# Altium schematic symbol library BRT_baza.SchLib: 317 symbols (part 1 of 4)
Pins are listed as number, name and electrical type; pins without a type are passive.

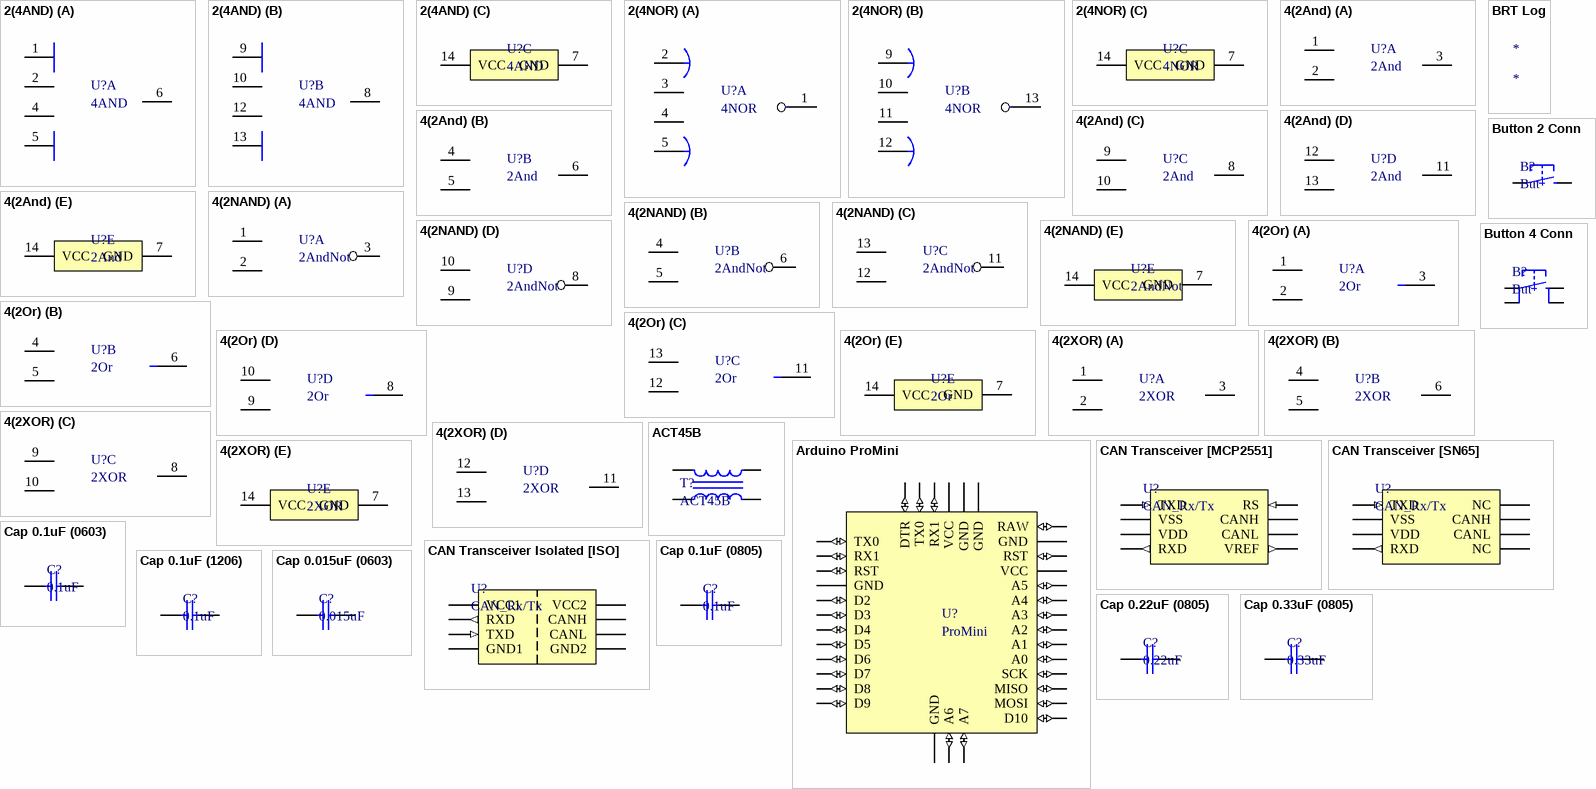
[diagram p0: symbols 2(4AND) to Cap 0.33uF (0805)]

## 2(4AND)
designator U?, comment 4AND
2 logic elements "4AND"; Part Number: 74HC21D,653; Manufacturer: Nexperia; ComponentLink1Description: Chip&Dip; ComponentLink1URL: https://www.chipdip.ru/product/74hc21d.653; Type: IC; ComponentLink2Description: DataSheet; ComponentLink2URL: https://static.chipdip.ru/lib/522/DOC011522559.pdf
footprint SOIC-14
part A pins: 1 A, 2 B, 4 C, 5 D, 6 Y
part B pins: 8 Y, 9 A, 10 B, 12 C, 13 D
part C pins: 7 GND, 14 VCC

## 2(4NOR)
designator U?, comment 4NOR
2 logic elements "4NOR"; Part Number: 74HC4002D,652; Manufacturer: Nexperia; ComponentLink1Description: Chip&Dip; ComponentLink1URL: https://www.chipdip.ru/product/74hc4002d; Type: IC; ComponentLink2Description: DataSheet; ComponentLink2URL: https://static.chipdip.ru/lib/493/DOC011493188.pdf
footprint SOIC-14
part A pins: 1 Y, 2 A, 3 B, 4 C, 5 D
part B pins: 9 A, 10 B, 11 C, 12 D, 13 Y
part C pins: 7 GND, 14 VCC

## 4(2And)
designator U?, comment 2And
4 logic elements "2AND"; Part Number: SN74AC08DR; Manufacturer: Texas Instruments; ComponentLink1Description: DataSheet; ComponentLink1URL: https://static.chipdip.ru/lib/551/DOC001551527.pdf; ComponentLink2Description: Chip&Dip; ComponentLink2URL: https://www.chipdip.ru/product/sn74ac08dr; Type: IC
footprint SOIC-14
part A pins: 1 1A, 2 1B, 3 1Y
part B pins: 4 2A, 5 2B, 6 2Y
part C pins: 8 3Y, 9 3A, 10 3B
part D pins: 11 4Y, 12 4A, 13 4B
part E pins: 7 GND (power), 14 VCC (power)

## 4(2NAND)
designator U?, comment 2AndNot
4 logic elements "2NAND"; Part Number: 74AC00SC; Manufacturer: Fairchild Semiconductor; ComponentLink1Description: DataSheet; ComponentLink1URL: https://static.chipdip.ru/lib/551/DOC001551527.pdf; ComponentLink2Description: ChipDip; ComponentLink2URL: https://www.chipdip.ru/product/74ac00sc; Type: IC
footprint SOIC-14
part A pins: 1 A0, 2 B0, 3 ~{O}0
part B pins: 4 A1, 5 B1, 6 ~{O}1
part C pins: 11 ~{O}2, 12 B2, 13 A2
part D pins: 8 ~{O}3, 9 B3, 10 A3
part E pins: 7 GND (power), 14 VCC (power)

## 4(2Or)
designator U?, comment 2Or
4 logic elements "2OR"; Part Number: 74AC32SC; Manufacturer: Fairchild Semiconductor; ComponentLink1Description: DataSheet; ComponentLink1URL: http://www.farnell.com/datasheets/2287666.pdf; ComponentLink2Description: Chip&Dip; ComponentLink2URL: https://www.chipdip.ru/product/74ac32sc; Type: IC
footprint SOIC-14
part A pins: 1 A0, 2 B0, 3 O0
part B pins: 4 A1, 5 B1, 6 O1
part C pins: 11 O2, 12 B2, 13 A2
part D pins: 8 O3, 9 B3, 10 A3
part E pins: 7 GND, 14 VCC

## 4(2XOR)
designator U?, comment 2XOR
4 logic elements "2XOR"; Part Number: 74HC86D,653; Manufacturer: Nexperia; ComponentLink1Description: Chip&Dip; ComponentLink1URL: https://www.chipdip.ru/product/74hc86d; Type: IC; ComponentLink2Description: DataSheet; ComponentLink2URL: https://ru.mouser.com/datasheet/2/916/74HC_HCT86-1319799.pdf
footprint SOIC-14
part A pins: 1 A, 2 B, 3 Y
part B pins: 4 A, 5 B, 6 Y
part C pins: 8 Y, 9 A, 10 B
part D pins: 11 Y, 12 A, 13 B
part E pins: 7 GND, 14 VCC

## ACT45B
designator T?
Common mode filters / Automotive signal line (for power train/safety); Manufacturer: EMC Components; Part Number: ACT45B-510-2P-TL003; Type: Inductor; ComponentLink1Description: DataSheet; ComponentLink1URL: https://product.tdk.com/info/en/catalog/datasheets/cmf_automotive_signal_act45b_en.pdf
footprint ACT45B
pins: 1, 2, 3, 4

## Arduino ProMini
designator U?, comment ProMini
Pro Mini 16MHz, 5V Arduino; Part Number: promini; Manufacturer: Arduino; Type: Board; ComponentLink2Description: MCUStore; ComponentLink2URL: https://mcustore.ru/store/arduino/arduino-pro-mini-16mgc-5v/?gclid=CjwKCAjwruSHBhAtEiwA_qCpptBiBSHv2K-HxzPqS8Vo7DoRnlbtq3EtxVQpCk8AOObuA6LjwdIEThoCbBYQAvD_BwE
footprint ProMini
pins: 1 RAW (io), 2 GND (power) "Ground", 3 RST (io) "29, Reset, PC6, PCINT14", 4 VCC (power) "Digital power supply", 5 A3 (io) "26, A3, PC3, ADC3, PCINT11", 6 A2 (io) "25, A2, PC2, ADC2, PCINT10", 7 A1 (io) "24, A1, PC1, ADC1, PCINT9", 8 A0 (io) "23, A0, PC0, ADC0, PCINT8", 9 SCK (io) "17, D13, PB5, SCK, PCINT5, LED", 10 MISO (io) "16, D12, PB4, MISO, PCINT4", 11 MOSI (io) "15, D11, PB3, PWM 8-b, MOSI, PCINT3, OC2B", 12 D10 (io) "14, D10, PB2, PWM 8-b, SS, PCINT2, OC1B", 13 A7 (io) "22, A7, ADC7", 14 A6 (io) "19, A6, ADC6", 15 GND (power), 16 D9 (io) "13, D9, PB1, PWM 8-b, PCINT1, OC1A", 17 D8 (io) "12, D8, PB0, PCINT0, ICP, CLKO", 18 D7 (io) "11, D7, PD7, PCINT23, AIN1", 19 D6 (io) "10, D6, PD6, PWM 8-b, PCINT22, AIN0, OC0A", 20 D5 (io) "9, D5, PD5, PWM 8-b, PCINT21, T1, OC0B", 21 D4 (io) "2, D4, PD4, PCINT20, T0, XCK", 22 D3 (io) "1, D3, PD3, PWM 8-b, INT1, PCINT19, OC2B", 23 D2 (io) "32, D2, PD2, INT0, PCINT18", 24 GND (power), 25 RST (io) "29, Reset, PC6, PCINT14", 26 RX1 (io) "30, D0, PD0, RXD, PCINT16", 27 TX0 (io) "31, D1, PD1, TXD, PCINT17", 28 DTR (io), 29 TX0 (io) "31, D1, PD1, TXD, PCINT17", 30 RX1 (io) "30, D0, PD0, RXD, PCINT16", 31 VCC (power) "Digital power supply", 32 GND (power) "Ground", 33 GND (power) "Ground", 34 A5 (io) "28, A5, ADC5, SCL, PCINT13", 35 A4 (io) "27, A4, ADC4, SDA, PCINT12"

## BRT Log
designator *
Team Logo
footprint BRT_Log

## Button 2 Conn
designator B?, comment But
Button 2 Conn SMD; Part Number: L-KLS7-TS3608-5.0-180; Manufacturer: KLS electronic co ltd; Type: Button; ComponentLink1Description: Chip&Dip; ComponentLink1URL: https://www.chipdip.ru/product/kls7-ts3608-5.0-180-td-02xa
footprint BUTTON 6x3.5
pins: 1, 2

## Button 4 Conn
designator B?, comment But
Button 4 Conn SMD; Manufacturer: TE Connectivity; Part Number: 1571563-9; Type: Button; ComponentLink1Description: Chip&Dip; ComponentLink1URL: https://www.chipdip.ru/product/tyco-1571563-9-fsm8jsmatr
footprint Button 6x6
pins: 1, 2, 3, 4

## CAN Transceiver [MCP2551]
designator U?, comment CAN_Rx/Tx
High-speed  CAN,  fault-tolerantdevice  that  serves  as  the  interface  between  a  CANprotocol controller and the physical bus.; Part Number: MCP2551-I/SN; Manufacturer: Microchip; ComponentLink1Description: DataSheet; ComponentLink1URL: https://static.chipdip.ru/lib/204/DOC000204457.pdf; ComponentLink2Description: Chip&Dip; ComponentLink2URL: https://www.chipdip.ru/product/mcp2551-i-sn; Type: IC
footprint SOIC-8
pins: 1 TXD (in), 2 VSS (power), 3 VDD (power), 4 RXD (out), 5 VREF (out), 6 CANL (oc), 7 CANH (oc), 8 RS (in)

## CAN Transceiver [SN65]
designator U?, comment CAN_Rx/Tx
3.3V CAN Transceiver; Part Number: SN65HVD232D; Manufacturer: Texas Instruments; ComponentLink1Description: DataSheet; ComponentLink1URL: https://static.chipdip.ru/lib/204/DOC000204848.pdf; ComponentLink2Description: Chip&Dip; ComponentLink2URL: https://www.chipdip.ru/product/sn65hvd232d-2; Type: IC
footprint SOIC-8
pins: 1 TXD (in), 2 VSS (power), 3 VDD (power), 4 RXD (out), 5 NC, 6 CANL (oc), 7 CANH (oc), 8 NC

## CAN Transceiver Isolated [ISO]
designator U?, comment CAN_Rx/Tx
Galvanically isolated CAN transceiver that meets the specifications of  the ISO11898-2 standard; Part Number: ISO1050DUB; Manufacturer: Texas Instruments; ComponentLink1Description: DataSheet; ComponentLink1URL: https://static.chipdip.ru/lib/143/DOC004143969.pdf; ComponentLink2Description: Chip&Dip; ComponentLink2URL: https://www.chipdip.ru/product/iso1050dub; Type: IC
footprint dub-8
pins: 1 VCC1 (power), 2 RXD (out), 3 TXD (in), 4 GND1 (power), 5 GND2 (power), 6 CANL (oc), 7 CANH (oc), 8 VCC2 (power)

## Cap 0.1uF (0603)
designator C?, comment 0.1uF
0.1uF X7R 16V 10% 0603; Manufacturer: Murata Manufacturing; Part Number: GRM188R71C104KA01D; Type: Capacitor; ComponentLink1Description: Chip&Dip; ComponentLink1URL: https://www.chipdip.ru/product/grm188r71c104ka01d
footprint 0603 Capicator
pins: 1, 2

## Cap 0.1uF (0805)
designator C?, comment 0.1uF
0.1uF X7R 25V 10% 0805; Manufacturer: Murata Manufacturing; Part Number: GRM21BR71E104KA01L; Type: Capacitor; ComponentLink1Description: Chip&Dip; ComponentLink1URL: https://www.chipdip.ru/product/grm21br71e104ka01l
footprint 0805 Capicator
pins: 1, 2

## Cap 0.1uF (1206)
designator C?, comment 0.1uF
0.1uF X7R 100V 10% 1206; Manufacturer: Murata Manufacturing; Part Number: GRM21BR71E104KA01L; Type: Capacitor; ComponentLink1Description: Chip&Dip; ComponentLink1URL: https://www.chipdip.ru/product/grm21br71e104ka01l
footprint 1206 Capacitor
pins: 1, 2

## Cap 0.015uF (0603)
designator C?, comment 0.015uF
0.015uF X7R 50V 10% 0603; Manufacturer: Taiwan; Part Number: MLCC0.015uFX7R50V10%0603; Type: Capacitor; ComponentLink1Description: Chip&Dip; ComponentLink1URL: https://www.chipdip.ru/product0/895412441
footprint 0603 Capicator
pins: 1, 2

## Cap 0.22uF (0805)
designator C?, comment 0.22uF
0.22uF X7R 50V 10% 0805; Manufacturer: Murata Manufacturing; Part Number: GRM21BR71H224KA01L; Type: Capacitor; ComponentLink1Description: Chip&Dip; ComponentLink1URL: https://www.chipdip.ru/product/grm21br71h224k
footprint 0805 Capicator
pins: 1, 2

## Cap 0.33uF (0805)
designator C?, comment 0.33uF
0.33uF X7R 25V 10% 0805; Manufacturer: Murata Manufacturing; Part Number: GRM21BR71E334KA01L; Type: Capacitor; ComponentLink1Description: Chip&Dip; ComponentLink1URL: https://www.chipdip.ru/product/grm21br71e334k
footprint 0805 Capicator
pins: 1, 2

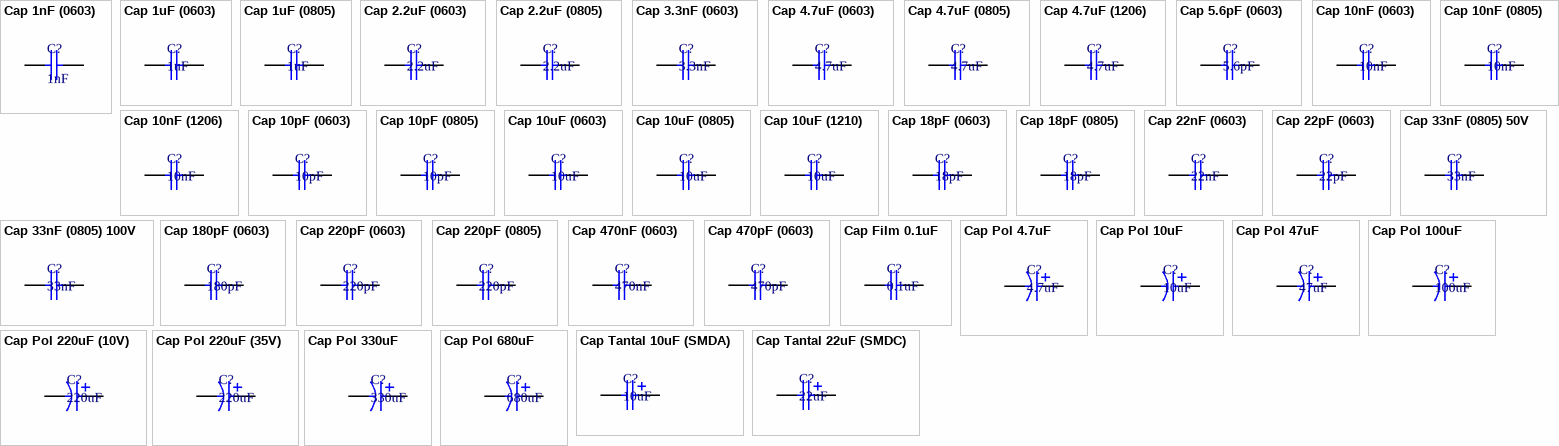
[diagram p1: symbols Cap 1nF (0603) to Cap Tantal 22uF (SMDC)]

## Cap 1nF (0603)
designator C?, comment 1nF
X7R 1nF 100V 10% 0603; Manufacturer: Murata Manufacturing; Part Number: GRM188R72A102KA01D; Type: Capacitor; ComponentLink1Description: Chip&Dip; ComponentLink1URL: https://www.chipdip.ru/product/grm188r72a102ka01d
footprint 0603 Capicator
pins: 1, 2

## Cap 1uF (0603)
designator C?, comment 1uF
1uF X5R 25V 10% 0603; Manufacturer: Murata Manufacturing; Part Number: GRM188R61E105KAADD; Type: Capacitor; ComponentLink1Description: Chip&Dip; ComponentLink1URL: https://www.chipdip.ru/product/grm188r61e105k
footprint 0603 Capicator
pins: 1, 2

## Cap 1uF (0805)
designator C?, comment 1uF
1uF X7R 10% 16V 0805; Manufacturer: Murata Manufacturing; Part Number: GRM21BR71C105KA01K; Type: Capacitor; ComponentLink1Description: Chip&Dip; ComponentLink1URL: https://www.chipdip.ru/product/grm21br71c105k
footprint 0805 Capicator
pins: 1, 2

## Cap 2.2uF (0603)
designator C?, comment 2.2uF
2.2uF X5R 10V 10% 0603; Manufacturer: Murata Manufacturing; Part Number: GRM188R61A225KE34D; Type: Capacitor; ComponentLink1Description: Chip&Dip; ComponentLink1URL: https://www.chipdip.ru/product/grm188r61a225k
footprint 0603 Capicator
pins: 1, 2

## Cap 2.2uF (0805)
designator C?, comment 2.2uF
2.2uF X7R 25V 0805; Manufacturer: Murata Manufacturing; Part Number: GRM21BR71E225KA73L; Type: Capacitor; ComponentLink1Description: Chip&Dip; ComponentLink1URL: https://www.chipdip.ru/product/grm21br71e225k
footprint 0805 Capicator
pins: 1, 2

## Cap 3.3nF (0603)
designator C?, comment 3.3nF
X7R 3.3nF 100V 10% 0603; Manufacturer: Murata Manufacturing; Part Number: GRM188R72A332KA01D; Type: Capacitor; ComponentLink1Description: Chip&Dip; ComponentLink1URL: https://www.chipdip.ru/product/grm188r72a332ka01d
footprint 0603 Capicator
pins: 1, 2

## Cap 4.7uF (0603)
designator C?, comment 4.7uF
4.7uF X5R 25V 10% 0603; Manufacturer: Murata Manufacturing; Part Number: GRM188R61E475KE11D; Type: Capacitor; ComponentLink1Description: Chip&Dip; ComponentLink1URL: https://www.chipdip.ru/product0/9000348448
footprint 0603 Capicator
pins: 1, 2

## Cap 4.7uF (0805)
designator C?, comment 4.7uF
4.7uF X5R 10% 25V 0805; Manufacturer: Murata Manufacturing; Part Number: GRM21BR61E475KA12L; Type: Capacitor; ComponentLink1Description: Chip&Dip; ComponentLink1URL: https://www.chipdip.ru/product/grm21br61e475ka12l
footprint 0805 Capicator
pins: 1, 2

## Cap 4.7uF (1206)
designator C?, comment 4.7uF
4.7uF X7R 10% 50V 1206; Manufacturer: Murata Manufacturing; Part Number: GRM31CR71H475KA12L; Type: Capacitor; ComponentLink1Description: Chip&Dip; ComponentLink1URL: https://www.chipdip.ru/product/grm31cr71h475ka12l
footprint 1206 Capacitor
pins: 1, 2

## Cap 5.6pF (0603)
designator C?, comment 5.6pF
10pF NP0 50V 5% 0603; Manufacturer: Murata Manufacturing; Part Number: GRM1885C1H5R6CZ01D; Type: Capacitor; ComponentLink1Description: Chip&Dip; ComponentLink1URL: https://www.chipdip.ru/product/grm1885c1h5r6c
footprint 0603 Capicator
pins: 1, 2

## Cap 10nF (0603)
designator C?, comment 10nF
X7R 10nF 100V 10% 0603; Manufacturer: Murata Manufacturing; Part Number: GRM188R72A103KA01D; Type: Capacitor; ComponentLink1Description: Chip&Dip; ComponentLink1URL: https://www.chipdip.ru/product/grm188r72a103ka01d
footprint 0603 Capicator
pins: 1, 2

## Cap 10nF (0805)
designator C?, comment 10nF
0805 X7R 10nF 100V 10%; Manufacturer: Murata Manufacturing; Part Number: GRM21BR72A103KA01L; Type: Capacitor; ComponentLink1Description: Chip&Dip; ComponentLink1URL: https://www.chipdip.ru/product/grm21br72a103ka01l
footprint 0805 Capicator
pins: 1, 2

## Cap 10nF (1206)
designator C?, comment 10nF
10nF X7R 10% 50V 1206; Manufacturer: Murata Manufacturing; Part Number: GRM319R71H103KA01D; Type: Capacitor; ComponentLink1Description: Chip&Dip; ComponentLink1URL: https://www.chipdip.ru/product/grm319r71h103k
footprint 1206 Capacitor
pins: 1, 2

## Cap 10pF (0603)
designator C?, comment 10pF
10pF NP0 50V 5% 0603; Manufacturer: Murata Manufacturing; Part Number: GRM1885C1H100JA01D; Type: Capacitor; ComponentLink1Description: Chip&Dip; ComponentLink1URL: https://www.chipdip.ru/product/grm1885c1h100j
footprint 0603 Capicator
pins: 1, 2

## Cap 10pF (0805)
designator C?, comment 10pF
10pF NP0 50V 5% 0805; Manufacturer: Murata Manufacturing; Part Number: GRM2165C1H100JZ01D; Type: Capacitor; ComponentLink1Description: Chip&Dip; ComponentLink1URL: https://www.chipdip.ru/product/grm2165c1h100j
footprint 0805 Capicator
pins: 1, 2

## Cap 10uF (0603)
designator C?, comment 10uF
10uF X5R 25V 20% 0603; Manufacturer: Murata Manufacturing; Part Number: GRM188R61E106M; Type: Capacitor; ComponentLink1Description: Chip&Dip; ComponentLink1URL: https://www.chipdip.ru/product/grm188r61e106m
footprint 0603 Capicator
pins: 1, 2

## Cap 10uF (0805)
designator C?, comment 10uF
10uF X5R 10% 16V 0805; Manufacturer: Murata Manufacturing; Part Number: GRM21BR61C106KE15L; Type: Capacitor; ComponentLink1Description: Chip&Dip; ComponentLink1URL: https://www.chipdip.ru/product/grm21br61c106ke15l
footprint 0805 Capicator
pins: 1, 2

## Cap 10uF (1210)
designator C?, comment 10uF
10uF X7R 10% 50V 1210; Manufacturer: Murata Manufacturing; Part Number: GRM32ER71H106KA12; Type: Capacitor; ComponentLink1Description: Chip&Dip; ComponentLink1URL: https://www.chipdip.ru/product/grm32er71h106k
footprint 1210 CAPACITOR
pins: 1, 2

## Cap 18pF (0603)
designator C?, comment 18pF
18pF NP0 50V 5% 0603; Manufacturer: Murata Manufacturing; Part Number: GRM1885C1H180JA01D; Type: Capacitor; ComponentLink1Description: Chip&Dip; ComponentLink1URL: https://www.chipdip.ru/product/grm1885c1h180j
footprint 0603 Capicator
pins: 1, 2

## Cap 18pF (0805)
designator C?, comment 18pF
18pF NP0 50V 5% 0805; Manufacturer: Murata Manufacturing; Part Number: GRM2165C1H180JD01D; Type: Capacitor; ComponentLink1Description: Chip&Dip; ComponentLink1URL: https://www.chipdip.ru/product/grm2165c1h180j
footprint 0805 Capicator
pins: 1, 2

## Cap 22nF (0603)
designator C?, comment 22nF
22nF X7R 50V 10% 0603; Manufacturer: Murata Manufacturing; Part Number: GRM188R71H223KA01D; Type: Capacitor; ComponentLink1Description: Chip&Dip; ComponentLink1URL: https://www.chipdip.ru/product/grm188r71h223k
footprint 0603 Capicator
pins: 1, 2

## Cap 22pF (0603)
designator C?, comment 22pF
22pF NP0 50V 5% 0603; Manufacturer: Taiwan; Part Number: MLCC22pFNPO50V5%0603; Type: Capacitor; ComponentLink1Description: Chip&Dip; ComponentLink1URL: https://www.chipdip.ru/product0/472852716
footprint 0603 Capicator
pins: 1, 2

## Cap 33nF (0805) 50V
designator C?, comment 33nF
0805 C0G 3.3нФ 50В 5%; Part Number: GRM21BR72A333KA01L; Manufacturer: Murata Manufacturing; Type: Capacitor; ComponentLink1Description: DataSheet; ComponentLink1URL: https://static.chipdip.ru/lib/250/DOC000250694.pdf; ComponentLink2Description: Chip&Dip; ComponentLink2URL: https://www.chipdip.ru/product/grm2165c1h332ja01d
footprint 0805 Capicator
pins: 1, 2

## Cap 33nF (0805) 100V
designator C?, comment 33nF
0805 X7R 33нФ 100В 10%; Part Number: GRM2165C1H332JA01D; Manufacturer: Murata Manufacturing; Type: Capacitor; ComponentLink1Description: DataSheet; ComponentLink1URL: https://static.chipdip.ru/lib/250/DOC000250694.pdf; ComponentLink2Description: Chip&Dip; ComponentLink2URL: https://www.chipdip.ru/product/grm21br72a333ka01l
footprint 0805 Capicator
pins: 1, 2

## Cap 180pF (0603)
designator C?, comment 180pF
180pF NP0 50V 5% 0603; Manufacturer: Murata Manufacturing; Part Number: GRM1885C1H181JA01D; Type: Capacitor; ComponentLink1Description: Chip&Dip; ComponentLink1URL: https://www.chipdip.ru/product/grm1885c1h181j
footprint 0603 Capicator
pins: 1, 2

## Cap 220pF (0603)
designator C?, comment 220pF
220pF NP0 50V 5% 0603; Manufacturer: Murata Manufacturing; Part Number: GRM1885C1H221J; Type: Capacitor; ComponentLink1Description: Chip&Dip; ComponentLink1URL: https://www.chipdip.ru/product/grm1885c1h221j
footprint 0603 Capicator
pins: 1, 2

## Cap 220pF (0805)
designator C?, comment 220pF
220pF NPO 5% 50V 0805; Manufacturer: Murata Manufacturing; Part Number: GRM2165C1H221JA01D; Type: Capacitor; ComponentLink1Description: Chip&Dip; ComponentLink1URL: https://www.chipdip.ru/product/grm2165c1h221j
footprint 0805 Capicator
pins: 1, 2

## Cap 470nF (0603)
designator C?, comment 470nF
470nF X7R 25V 10% 0603; Manufacturer: Murata Manufacturing; Part Number: GRM188R71E474KA12D; Type: Capacitor; ComponentLink1Description: Chip&Dip; ComponentLink1URL: https://www.chipdip.ru/product/grm188r71e474ka12d
footprint 0603 Capicator
pins: 1, 2

## Cap 470pF (0603)
designator C?, comment 470pF
470pF NP0 50V 5% 0603; Manufacturer: Taiwan; Part Number: MLCC470pFNPO50V5%0603; Type: Capacitor; ComponentLink1Description: Chip&Dip; ComponentLink1URL: https://www.chipdip.ru/product0/515359566
footprint 0603 Capicator
pins: 1, 2

## Cap Film 0.1uF
designator C?, comment 0.1uF
0.1uF 1000V 5%; Manufacturer: Epcos; Part Number: B32652A0104J000; Type: Capacitor; ComponentLink1Description: Chip&Dip; ComponentLink1URL: https://www.chipdip.ru/product/b32652a0104j000; ComponentLink2Description: DataSheet; ComponentLink2URL: https://static.chipdip.ru/lib/423/DOC004423752.pdf
footprint CAP Film 9x18 (DS1069-6 MR)
pins: 1, 2

## Cap Pol 4.7uF
designator C?, comment 4.7uF
ECAP SMD,  35V, 105°C; Part Number: B41121A7475M000; Manufacturer: Epcos; Type: Capacitor; ComponentLink1Description: Chip&Dip; ComponentLink1URL: https://www.chipdip.ru/product/b41121a7475m000
footprint Bar Cap 4x5.4
pins: 1, 2

## Cap Pol 10uF
designator C?, comment 10uF
ECAP SMD,  35V; Part Number: ECAPSMD10uF/35V; Manufacturer: China; Type: Capacitor; ComponentLink1Description: Chip&Dip; ComponentLink1URL: https://www.chipdip.ru/product0/884555856
footprint Bar Cap 5x5.4
pins: 1, 2

## Cap Pol 47uF
designator C?, comment 47uF
ECAP SMD,  25V, 105°C, 20%; Part Number: JCK1E470M063054; Manufacturer: JB; Type: Capacitor; ComponentLink1Description: Chip&Dip; ComponentLink1URL: https://www.chipdip.ru/product0/9000565730
footprint Bar Cap 6.3x7.7
pins: 1, 2

## Cap Pol 100uF
designator C?, comment 100uF
ECAP SMD,  35V, 105°C, 20%; Part Number: JCK1V101M063077; Manufacturer: JB; Type: Capacitor; ComponentLink1Description: Chip&Dip; ComponentLink1URL: https://www.chipdip.ru/product0/9000565737
footprint Bar Cap 6.3x7.7
pins: 1, 2

## Cap Pol 220uF (10V)
designator C?, comment 220uF
ECAP SMD,  10V, 105°C, 20%; Part Number: JCK1A221M063077; Manufacturer: JB; Type: Capacitor; ComponentLink1Description: Chip&Dip; ComponentLink1URL: https://www.chipdip.ru/product0/9000565740
footprint Bar Cap 6.3x7.7
pins: 1, 2

## Cap Pol 220uF (35V)
designator C?, comment 220uF
ECAP SMD,  35V, 105°C, 20%; Part Number: JCK1V221M080105; Manufacturer: JB; Type: Capacitor; ComponentLink1Description: Chip&Dip; ComponentLink1URL: https://www.chipdip.ru/product0/9000565743
footprint Bar Cap 8x10.5
pins: 1, 2

## Cap Pol 330uF
designator C?, comment 330uF
ECAP SMD,  16V, 105°C, 20%; Part Number: JCK1C331M080105; Manufacturer: JB; Type: Capacitor; ComponentLink1Description: Chip&Dip; ComponentLink1URL: https://www.chipdip.ru/product0/9000565746
footprint Bar Cap 8x10.5
pins: 1, 2

## Cap Pol 680uF
designator C?, comment 680uF
ECAP, 16V, 105°C, 20%, 8x16mm; Part Number: JRB1C681M03500800160000B; Manufacturer: JB; Type: Capacitor; ComponentLink1Description: Chip&Dip; ComponentLink1URL: https://www.chipdip.ru/product0/9000565740
footprint ECAP 8x16mm
pins: 1, 2

## Cap Tantal 10uF (SMDA)
designator C?, comment 10uF
TECAP, 10uF, 16V, case A, 10%; Part Number: 373033076; Manufacturer: China; Type: Capacitor; ComponentLink1Description: Chip&Dip; ComponentLink1URL: https://www.chipdip.ru/product0/373033076
footprint TANTAL_A_CASE
pins: 1, 2

## Cap Tantal 22uF (SMDC)
designator C?, comment 22uF
TECAP, 22uF, 16V, case C, 10%; Part Number: TECAP22/16VC10; Manufacturer: China; Type: Capacitor; ComponentLink1Description: Chip&Dip; ComponentLink1URL: https://www.chipdip.ru/product0/527359843
footprint TANTAL_C_CASE
pins: 1, 2

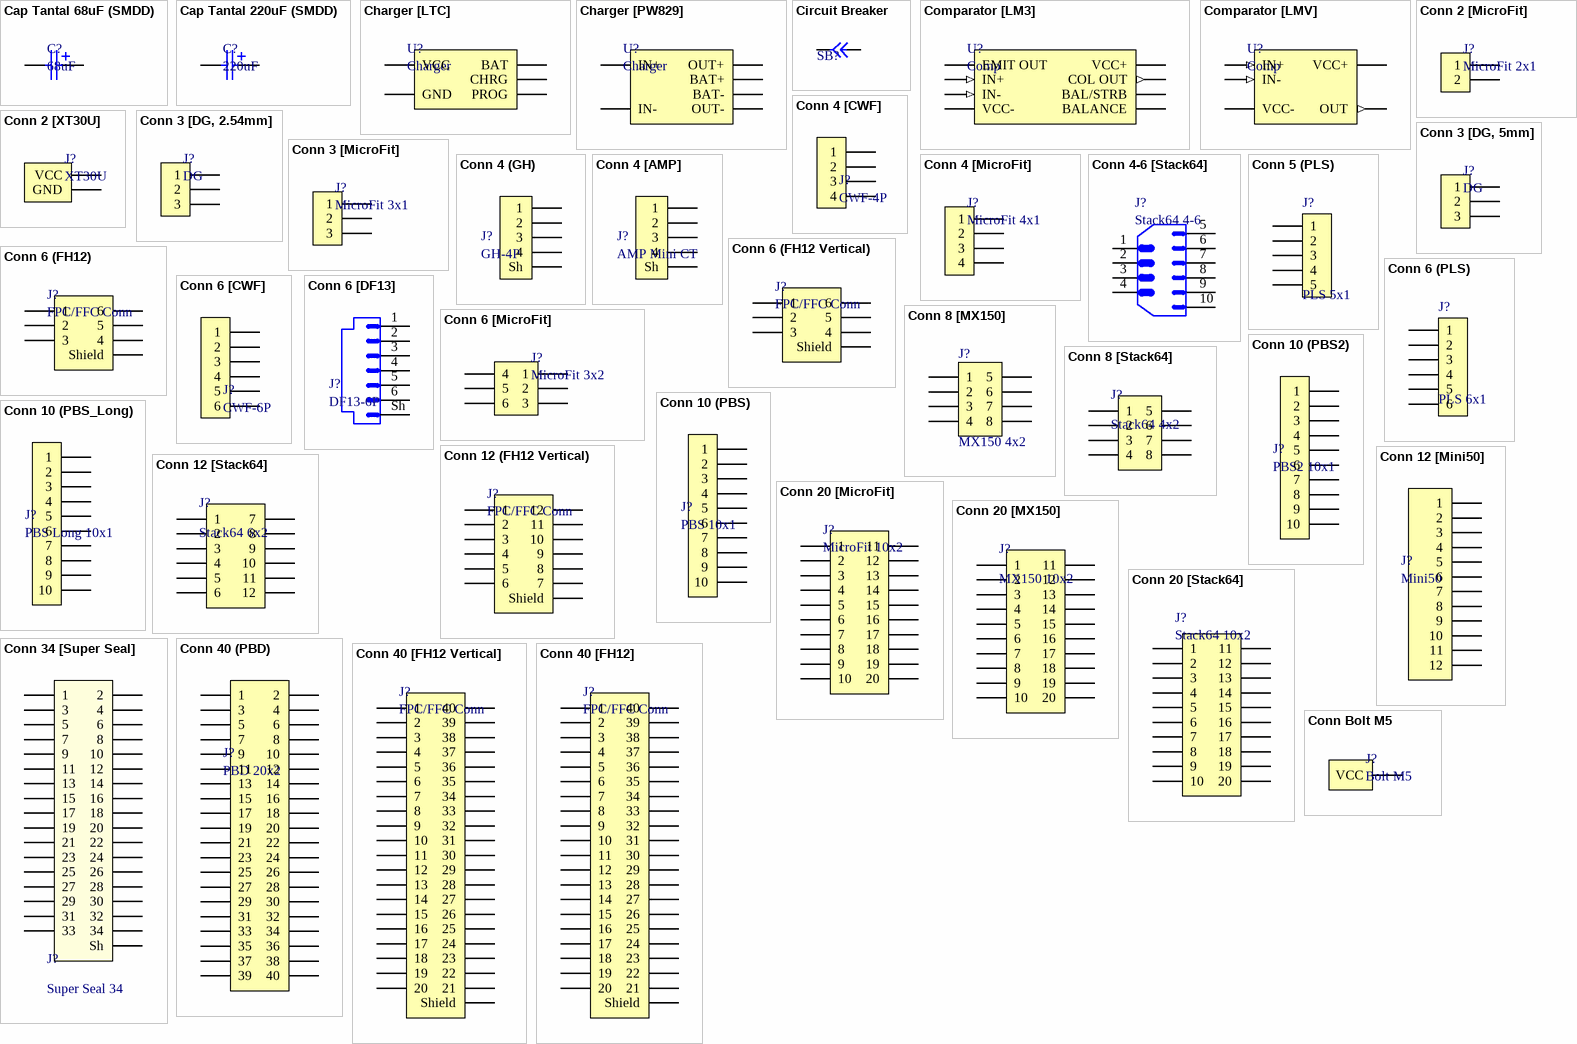
[diagram p2: symbols Cap Tantal 68uF (SMDD) to Conn Bolt M5]

## Cap Tantal 68uF (SMDD)
designator C?, comment 68uF
TECAP, 68uF, 16V, case D, 10%; Part Number: TECAP68/16VD10; Manufacturer: China; Type: Capacitor; ComponentLink1Description: Chip&Dip; ComponentLink1URL: https://www.chipdip.ru/product0/979125339
footprint TANTAL_D_CASE
pins: 1, 2

## Cap Tantal 220uF (SMDD)
designator C?, comment 220uF
TECAP, 220uF, 10V, case D, 10%; Part Number: TECAP220/10VD10; Manufacturer: China; Type: Capacitor; ComponentLink1Description: Chip&Dip; ComponentLink1URL: https://www.chipdip.ru/product0/544389172
footprint TANTAL_D_CASE
pins: 1, 2

## Charger [LTC]
designator U?, comment Charger
The LTC®4054 is a complete constant-current/constant-voltage linear charger for single cell lithium-ion batteries.Its ThinSOT package and low external component countmake the LTC4054 ideally suited for portable applications.Furthermore, the LTC4054 is specifically designed to workwithin USB power specifications; Part Number: LTC4054ES5-4.2#PBF; Manufacturer: Linear Technology; ComponentLink2Description: Chip&Dip; ComponentLink2URL: https://www.chipdip.ru/product/ltc4054es5-4.2; Type: IC; ComponentLink3Description: DataSheet; ComponentLink3URL: https://static.chipdip.ru/lib/760/DOC000760847.pdf
footprint SOT-23-5
pins: 1 CHRG, 2 GND (power), 3 BAT (power), 4 VCC (power), 5 PROG

## Charger [PW829]
designator U?, comment Charger
Charger for Li-Ion; Part Number: PW829; Manufacturer: Master Kit; ComponentLink2Description: Chip&Dip; ComponentLink2URL: https://www.chipdip.ru/product0/8002091037; Type: IC
footprint PW829
pins: B+ BAT+ (power), B- BAT- (power), IN+ (power), IN- (power), OUT+ (power), OUT- (power)

## Circuit Breaker
designator SB?  (value not drawn)
footprint SB 0603 (Jumper)
pins: 1, 2

## Comparator [LM3]
designator U?, comment Comp
Differential comparator with strobes; Part Number: LM311DR; Manufacturer: Texas Instruments; ComponentLink1Description: DataSheet; ComponentLink1URL: https://static.chipdip.ru/lib/222/DOC000222396.pdf; ComponentLink2Description: Chip&Dip; ComponentLink2URL: https://www.chipdip.ru/product/lm311d; Type: IC
footprint SOIC-8
pins: 1 EMIT OUT, 2 IN+ (in), 3 IN- (in), 4 VCC- (power), 5 BALANCE (oc), 6 BAL/STRB (oc), 7 COL OUT (out), 8 VCC+ (power)

## Comparator [LMV]
designator U?, comment Comp
Differential comparator with strobes; Part Number: LMV331M5/NOPB; Manufacturer: Texas Instruments; ComponentLink1Description: DataSheet; ComponentLink1URL: https://static.chipdip.ru/lib/291/DOC000291302.pdf; ComponentLink2Description: Chip&Dip; ComponentLink2URL: https://www.chipdip.ru/product/lmv331m5-nopb; Type: IC
footprint SOT-23-5
pins: 1 IN+ (in), 2 VCC- (power), 3 IN- (in), 4 OUT (out), 5 VCC+ (power)

## Conn 2 [MicroFit]
designator J?, comment MicroFit 2x1
Micro-Fit 3.0 Right-Angle Header, 3.00mm Pitch, Single Row, 2 Circuits, with Snap-in Plastic Peg PCB Lock, Tin, Glow-Wire Capable, Black; Part Number: 436500200; Manufacturer: Molex; ComponentLink1Description: Molex; ComponentLink1URL: https://www.molex.com/molex/products/part-detail/pcb_headers/0436500200; Type: Connector
footprint MolexMicroFit 2x1
pins: 1, 2

## Conn 2 [XT30U]
designator J?, comment XT30U
Standart RC connector; Manufacturer: Amass; ComponentLink1Description: AliExpress; ComponentLink1URL: https://ru.aliexpress.com/item/4000070113352.html?spm=a2g0o.productlist.0.0.39dd34bfyYuspa&algo_pvid=4d7d83f5-6270-4220-b100-9b5f13b0846d&algo_expid=4d7d83f5-6270-4220-b100-9b5f13b0846d-3&btsid=c67bc929-e3be-4af3-9fd9-25ac13ce4818&ws_ab_test=searchweb0_0,searchweb201602_,searchweb201603_55; Part Number: XT30U; Type: Connector
footprint HEADER 2 XT30U
pins: 1 VCC, 2 GND

## Conn 3 [DG, 2.54mm]
designator J?, comment DG
Part Number: DG308-2.54-03P; Manufacturer: Ningbo Xinya M&E; ComponentLink1Description: Chip&Dip; ComponentLink1URL: https://www.chipdip.ru/product/308-031-14-dg308-2.54-03p; Type: Connector
footprint DG308-2.54-03P-3PIN
pins: 1, 2, 3

## Conn 3 [DG, 5mm]
designator J?, comment DG
Part Number: DG128-5.0-03P-14; Manufacturer: KLS electronic co ltd; ComponentLink1Description: Chip&Dip; ComponentLink1URL: https://www.chipdip.ru/product/kls2-128-5.00-03p-4s-dg128-5.0-03p-14; Type: Connector
footprint DG128-5.0-03P-14
pins: 1, 2, 3

## Conn 3 [MicroFit]
designator J?, comment MicroFit 3x1
Micro-Fit 3.0 Right-Angle Header, 3.00mm Pitch, Single Row, 3 Circuits, with Snap-in Plastic Peg PCB Lock, Tin, Glow-Wire Capable, Black; Part Number: 436500300; Manufacturer: Molex; ComponentLink1Description: Molex; ComponentLink1URL: https://www.molex.com/molex/products/part-detail/pcb_headers/0436500300; Type: Connector
footprint MolexMicroFit 3x1
pins: 1, 2, 3

## Conn 4 (GH)
designator J?, comment GH-4P
Connector Receptacle 4 Position 0.049" (1.25mm) Tin Surface Mount, Right Angle; Part Number: SM04B-GHS-TB; Manufacturer: JST Corporation; Type: Connector; ComponentLink1Description: Chip&Dip; ComponentLink1URL: https://www.chipdip.ru/product1/8002655893
footprint JST_GH-4P-RA
pins: 1, 2, 3, 4, A Sh

## Conn 4 [AMP]
designator J?, comment AMP Mini CT
PCB Mount Header, Right Angle,  Wire-to-Board; Part Number: 292227-4; Manufacturer: TE Connectivity; Type: Connector; ComponentLink1Description: TE Connectivity; ComponentLink1URL: https://www.te.com/usa-en/product-292227-4.html; ComponentLink2Description: Mouser; ComponentLink2URL: https://ru.mouser.com/ProductDetail/TE-Connectivity/5-292227-4?qs=sGAEpiMZZMvlX3nhDDO4AKROQBdNP11Lv8TEYXLdyMk%3D
footprint AMP Mini CT
pins: 1, 2, 3, 4, A Sh

## Conn 4 [CWF]
designator J?, comment CWF-4P
Right-Angle; Part Number: DS1069-4MRW6XB; Manufacturer: Ningbo connfly electronic (Zhenqin); Type: Connector; ComponentLink1Description: Chip&Dip; ComponentLink1URL: https://www.chipdip.ru/product/cwf-4r
footprint Conn4x1 (DS1069-6 MR)
pins: 1, 2, 3, 4

## Conn 4 [MicroFit]
designator J?, comment MicroFit 4x1
Micro-Fit 3.0 Right-Angle Header, 3.00mm Pitch, Single Row, 4 Circuits, with Snap-in Plastic Peg PCB Lock, Tin, Glow-Wire Capable, Black; Part Number: 436500400; Manufacturer: Molex; ComponentLink1Description: Molex; ComponentLink1URL: https://www.molex.com/molex/products/part-detail/pcb_headers/0436500400; Type: Connector
footprint MolexMicroFit 4x1
pins: 1, 2, 3, 4

## Conn 4-6 [Stack64]
designator J?, comment Stack64 4-6
Stac64 Single Bay Right-Angle Power Header, 10 Circuits: 4x30A, 6x18A, Polarization A, Black, Tray; Manufacturer: Molex Electronic Solutions; Part Number: 346960100; Type: Connector; ComponentLink1Description: Molex; ComponentLink1URL: https://www.molex.com/molex/products/part-detail/pcb_headers/0346960100
footprint Conn4-6 (Molex)
pins: 1, 2, 3, 4, 5, 6, 7, 8, 9, 10

## Conn 5 (PLS)
designator J?, comment PLS 5x1
Header, 5-Pin
footprint PLS 5x1 (Connector; Header; 5 Position)
pins: 1, 2, 3, 4, 5

## Conn 6 (FH12 Vertical)
designator J?, comment FPC/FFC Conn
Connector to touch sensor's trail; Part Number: FH12-6S-0.5SVA(54); Manufacturer: Hirose Electric; Type: Connector; ComponentLink1Description: Mouser; ComponentLink1URL: https://ru.mouser.com/ProductDetail/Hirose-Connector/FH12-6S-05SVA54?qs=%2Fha2pyFaduhYbZFVunKSgIpYMlkzngMoGcACEbztduQ1P2V6tcZCQQ%3D%3D
footprint FH12-6s Vertical
pins: 1, 2, 3, 4, 5, 6, A Shield

## Conn 6 (FH12)
designator J?, comment FPC/FFC Conn
Connector to touch sensor's trail; Part Number: FH12-6S-0.5SH(55); Manufacturer: Hirose Electric; Type: Connector; ComponentLink1Description: Chip&Dip; ComponentLink1URL: https://www.chipdip.ru/product1/8001997921
footprint FH12-6s
pins: 1, 2, 3, 4, 5, 6, A Shield

## Conn 6 (PLS)
designator J?, comment PLS 6x1
Header, 6-Pin
footprint PLS 6x1 (Connector; Header; 5 Position)
pins: 1, 2, 3, 4, 5, 6

## Conn 6 [CWF]
designator J?, comment CWF-6P
Right-Angle; Manufacturer: Ningbo connfly electronic (Zhenqin); Part Number: DS1069-6MRW6X-B; Type: Connector; ComponentLink1Description: Chip&Dip; ComponentLink1URL: https://www.chipdip.ru/product/cwf-6r
footprint Conn6x1 (DS1069-6 MR)
pins: 1, 2, 3, 4, 5, 6

## Conn 6 [DF13]
designator J?, comment DF13-6P
[DF13-6P-1.25H]; Manufacturer: Hirose; Part Number: CL0536-0255-2-75; Type: Connector; ComponentLink1Description: Hirose; ComponentLink1URL: https://www.hirose.com/product/p/CL0536-0255-2-75?lang=ru
footprint DF13-6p-1.25H; pin to pad Sh>A
pins: 1, 2, 3, 4, 5, 6, Sh A

## Conn 6 [MicroFit]
designator J?, comment MicroFit 3x2
Micro-Fit 3.0 Right-Angle Header, 3.00mm Pitch, Dual Row, 6 Circuits, with Snap-in Plastic Peg PCB Lock, Tin, Glow-Wire Capable, Black; Part Number: 430450600; Manufacturer: Molex; ComponentLink1Description: Molex; ComponentLink1URL: https://www.molex.com/molex/products/part-detail/pcb_headers/0430450600; Type: Connector
footprint MolexMicroFit 3x2
pins: 1, 2, 3, 4, 5, 6

## Conn 8 [MX150]
designator J?, comment MX150 4x2
MX150 2x4 Dual Row Right-Angle Header, 8 Circuits, Keying Option A, Black, Solder Tail; Manufacturer: Molex Electronic Solutions; Part Number: 348300801; ComponentLink1Description: Molex; ComponentLink1URL: https://www.molex.com/molex/products/part-detail/pcb_headers/0348300801; Type: Connector
footprint Conn 4x2 (Molex MX150)
pins: 1, 2, 3, 4, 5, 6, 7, 8

## Conn 8 [Stack64]
designator J?, comment Stack64 4x2
Stac64 Right-Angle Header Assembly, 8 Circuits, Polarization A, Black, Tray; Manufacturer: Molex Electronic Solutions; Part Number: 346910080; Type: Connector; ComponentLink1Description: Molex; ComponentLink1URL: https://www.molex.com/molex/products/part-detail/pcb_headers/0346910080
footprint Conn 4x2 (Molex)
pins: 1, 2, 3, 4, 5, 6, 7, 8

## Conn 10 (PBS2)
designator J?, comment PBS2 10x1
Female; Part Number: DS1026-01-1*10S8BV; Manufacturer: Ningbo connfly electronic; Type: Connector; ComponentLink1Description: Chip&Dip; ComponentLink1URL: https://www.chipdip.ru/product/pbs2-10
footprint PBS2 10
pins: 1, 2, 3, 4, 5, 6, 7, 8, 9, 10

## Conn 10 (PBS)
designator J?, comment PBS 10x1
Female; Part Number: DS1023-1*10S21; Manufacturer: Ningbo connfly electronic; Type: Connector; ComponentLink1Description: Chip&Dip; ComponentLink1URL: https://www.chipdip.ru/product/pbs-10
footprint PBS10
pins: 1, 2, 3, 4, 5, 6, 7, 8, 9, 10

## Conn 10 (PBS_Long)
designator J?, comment PBS Long 10x1
Long Arguino Male & Female Pins; Part Number: DS1023-30-1*10SF11-N-084; Manufacturer: Ningbo connfly electronic; Type: Connector; ComponentLink1Description: Chip&Dip; ComponentLink1URL: https://www.chipdip.ru/product/ds1023-30-1x10-for-arduino
footprint PBS10 Arduino
pins: 1, 2, 3, 4, 5, 6, 7, 8, 9, 10

## Conn 12 (FH12 Vertical)
designator J?, comment FPC/FFC Conn
Connector to trail; Part Number: FH12-12S-0.5SVA(54); Manufacturer: Hirose Electric; Type: Connector; ComponentLink1Description: Mouser; ComponentLink1URL: https://ru.mouser.com/ProductDetail/Hirose-Connector/FH12-12S-05SVA54?qs=%2Fha2pyFadugx2rsdyHDVcXwbI8krQaq6%252BPNTW5YGSdYzC8JBsy5pU75ViyDjvRCP
footprint FH12-12S Vertical
pins: 1, 2, 3, 4, 5, 6, 7, 8, 9, 10, 11, 12, A Shield

## Conn 12 [Mini50]
designator J?, comment Mini50
Mini50 Unsealed Right-Angle Header, Dual Row, 12 Circuit, Polarization Option A,Black, Tray; Part Number: 348260124; Manufacturer: Molex; Type: Connector; ComponentLink1Description: Mouser; ComponentLink1URL: https://ru.mouser.com/ProductDetail/Molex/34826-0124?qs=sGAEpiMZZMs7eK6h2EBtKq%2FAicJUTTGjFIo7mj9gX0g%3D
footprint Conn2x6 (Molex)
pins: 1, 2, 3, 4, 5, 6, 7, 8, 9, 10, 11, 12

## Conn 12 [Stack64]
designator J?, comment Stack64 6x2
Stac64 Right-Angle Header Assembly, 12 Circuits, Polarization A, Black, Tray / Current - Maximum per Contact 10.0A / Voltage - Maximum 500V; ComponentLink1Description: Molex; ComponentLink1URL: https://www.molex.com/molex/products/part-detail/pcb_headers/0346910120; ComponentLink2Description: DataSheet; ComponentLink2URL: https://www.molex.com/webdocs/datasheets/pdf/en-us/0346910120_PCB_HEADERS.pdf
footprint Conn6x2(Molex)
pins: 1, 2, 3, 4, 5, 6, 7, 8, 9, 10, 11, 12

## Conn 20 [MicroFit]
designator J?, comment MicroFit 10x2
Micro-Fit 3.0 Right-Angle Header, 3.00mm Pitch, Dual Row, 20 Circuits, with Snap-in Plastic Peg PCB Lock, Tin, Glow-Wire Capable, Black; Part Number: 436500400; Manufacturer: Molex; ComponentLink1Description: Molex; ComponentLink1URL: https://www.molex.com/molex/products/part-detail/pcb_headers/0436500400; Type: Connector
footprint MolexMicroFit 10x2
pins: 1, 2, 3, 4, 5, 6, 7, 8, 9, 10, 11, 12, 13, 14, 15, 16, 17, 18, 19, 20

## Conn 20 [MX150]
designator J?, comment MX150 10x2
Dual Row Right-Angle Header, 20 Circuits, Keying Option C, Dark Gray, Solder Tail; Part Number: 348302003; Manufacturer: Molex; ComponentLink2Description: Datasheet; ComponentLink2URL: https://www.molex.com/pdm_docs/as/AS-34829-001-001.pdf; Type: Connector
footprint Conn2x10 (Molex)
pins: 1, 2, 3, 4, 5, 6, 7, 8, 9, 10, 11, 12, 13, 14, 15, 16, 17, 18, 19, 20

## Conn 20 [Stack64]
designator J?, comment Stack64 10x2
Stac64 Right-Angle Header Assembly, 20 Circuits x 10A, Polarization A, Black, Tray; Manufacturer: Molex Electronic Solutions; Part Number: 346910200; Type: Connector; ComponentLink1Description: Molex; ComponentLink1URL: https://www.molex.com/molex/products/part-detail/pcb_headers/0346910200
footprint Conn10x2 (Molex)
pins: 1, 2, 3, 4, 5, 6, 7, 8, 9, 10, 11, 12, 13, 14, 15, 16, 17, 18, 19, 20

## Conn 34 [Super Seal]
designator J?, comment Super Seal 34
Manufacturer: TE Connectivity; Part Number: 6437288-1; ComponentLink1Description: TE Connectivity; ComponentLink1URL: https://www.te.com/usa-en/product-6437288-1.html; Type: Connector
footprint SuperSeal 34pin
pins: 1, 2, 3, 4, 5, 6, 7, 8, 9, 10, 11, 12, 13, 14, 15, 16, 17, 18, 19, 20, 21, 22, 23, 24, 25, 26, 27, 28, 29, 30, 31, 32, 33, 34, A Sh

## Conn 40 (PBD)
designator J?, comment PBD 20x2
Female for PLD; Part Number: DS1023-2*20S21; Manufacturer: Ningbo connfly electronic; Type: Connector; ComponentLink1Description: Chip&Dip; ComponentLink1URL: https://www.chipdip.ru/product/pbd-40
footprint PBD 2x20
pins: 1, 2, 3, 4, 5, 6, 7, 8, 9, 10, 11, 12, 13, 14, 15, 16, 17, 18, 19, 20, 21, 22, 23, 24, 25, 26, 27, 28, 29, 30, 31, 32, 33, 34, 35, 36, 37, 38, 39, 40

## Conn 40 [FH12 Vertical]
designator J?, comment FPC/FFC Conn
Connector to Display's trail.; Part Number: FH12-40S-0.5SVA(54); Manufacturer: Hirose Electric; Type: Connector; ComponentLink1Description: Chip&Dip; ComponentLink1URL: https://www.chipdip.ru/product1/8002082143
footprint FH12-40S Vertical
pins: 1, 2, 3, 4, 5, 6, 7, 8, 9, 10, 11, 12, 13, 14, 15, 16, 17, 18, 19, 20, 21, 22, 23, 24, 25, 26, 27, 28, 29, 30, 31, 32, 33, 34, 35, 36, 37, 38, 39, 40, A Shield

## Conn 40 [FH12]
designator J?, comment FPC/FFC Conn
Connector to Display's trail; Part Number: FH12-40S-0.5SH[55]; Manufacturer: Hirose Electric; Type: Connector; ComponentLink1Description: Chip&Dip; ComponentLink1URL: https://www.chipdip.ru/product1/8001997919
footprint FH12-40S
pins: 1, 2, 3, 4, 5, 6, 7, 8, 9, 10, 11, 12, 13, 14, 15, 16, 17, 18, 19, 20, 21, 22, 23, 24, 25, 26, 27, 28, 29, 30, 31, 32, 33, 34, 35, 36, 37, 38, 39, 40, A Shield

## Conn Bolt M5
designator J?, comment Bolt M5
Bolt M5 high corrent connector; Type: Connetctor; Manufacturer: *; Part Number: *; ComponentLink1Description: Chip&Dip; ComponentLink1URL: *; ComponentLink2Description: Datasheet; ComponentLink2URL: *
footprint Bolt M5
pins: 1 VCC

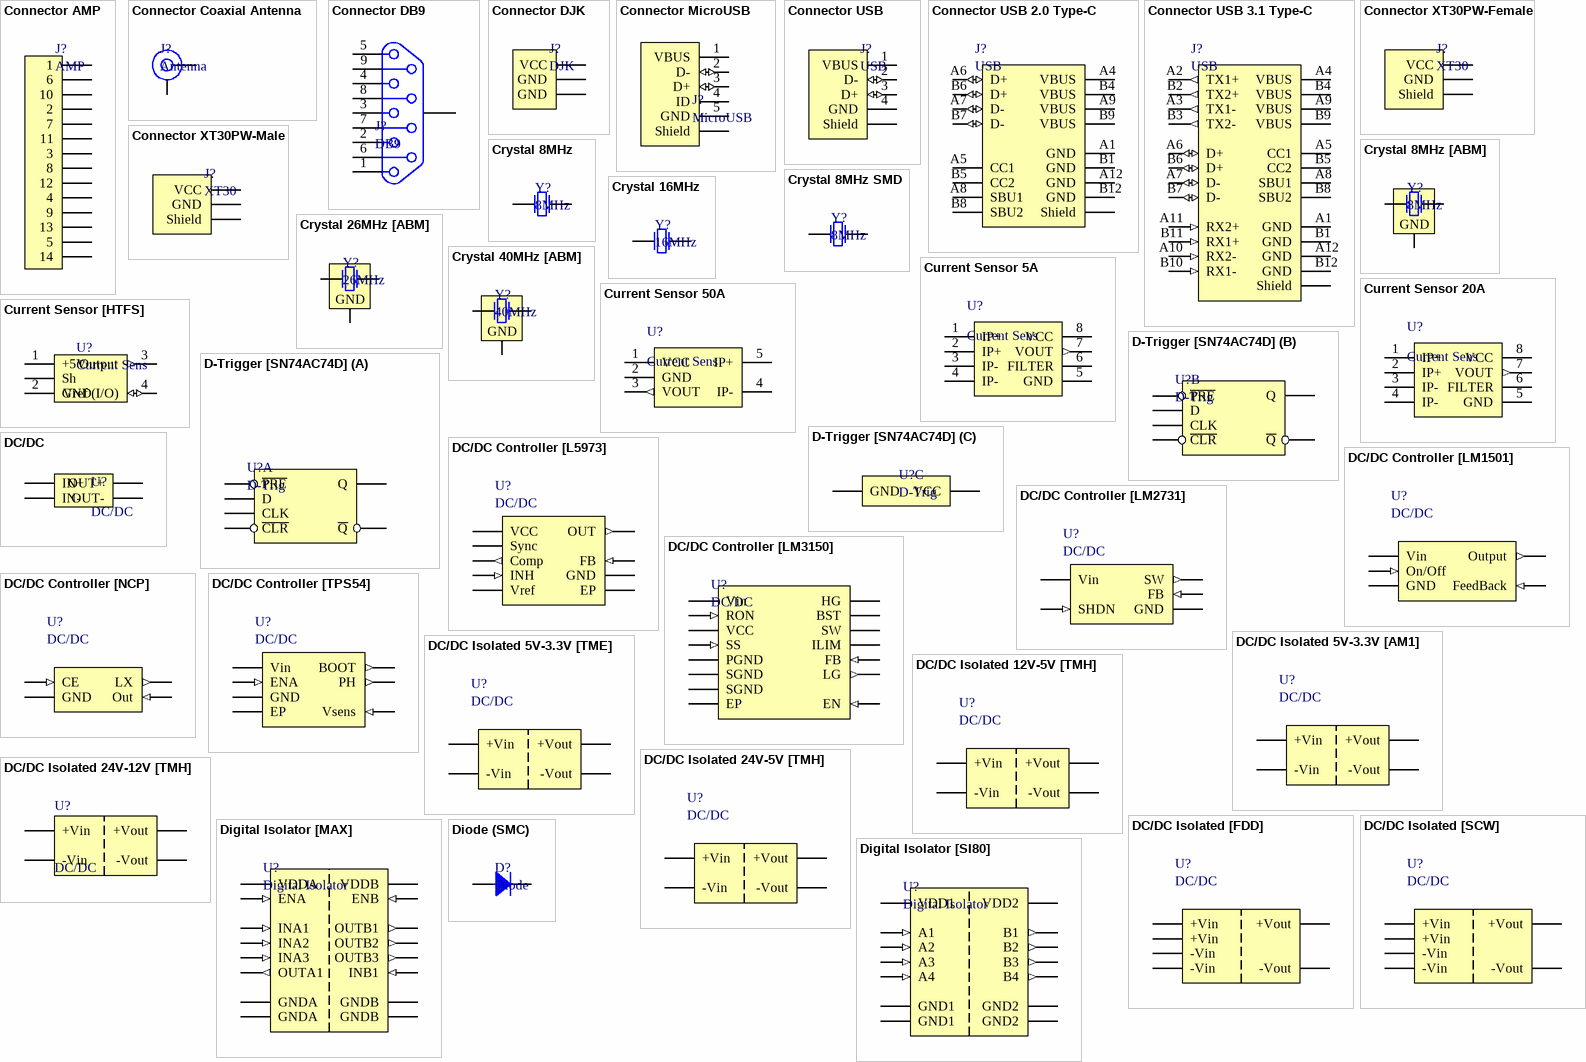
[diagram p3: symbols Connector AMP to Diode (SMC)]

## Connector AMP
designator J?, comment AMP
AMP Connector; Part Number: 776266-1; Manufacturer: TE Connectivity; Type: Connector
footprint AMP 776266-1
pins: 1, 2, 3, 4, 5, 6, 7, 8, 9, 10, 11, 12, 13, 14

## Connector Coaxial Antenna
designator J?, comment Antenna
[IPX U. FL]; Manufacturer: DIY BOX; ComponentLink1Description: AliExpress; ComponentLink1URL: https://aliexpress.ru/i/32666421757.html; Type: Connector; Part Number: IPX U. FL
footprint IPX U. FL
pins: 1 Antenna, A GND

## Connector DB9
designator J?, comment DB9
CONN D-SUB PLUG 9POS R/A SOLDER; Part Number: DR09S-H-CN; Manufacturer: Auk Contractors; ComponentLink1Description: DataSheet; ComponentLink1URL: https://static.chipdip.ru/lib/009/DOC004009535.pdf; ComponentLink2Description: Chip&Dip; ComponentLink2URL: https://www.chipdip.ru/product/dr09s-h-cn-drb-9fa-dbr-9f; Type: Connector
footprint DB9
pins: 1, 2, 3, 4, 5, 6, 7, 8, 9, A

## Connector DJK
designator J?, comment DJK
DC 2.5x5.5mm; Part Number: DS-210A (PBT) (NB); Manufacturer: Dragon City Industries; ComponentLink1Description: Chip&Dip; ComponentLink1URL: https://www.chipdip.ru/product/ds-210a-djk-02b; Type: Connector
footprint DJK-02B
pins: 1 VCC (power), 2 GND, 3 GND

## Connector MicroUSB
designator J?, comment MicroUSB
Molex MicroUSB; Part Number: 473460001; Manufacturer: Molex; ComponentLink1Description: Chip&Dip; ComponentLink1URL: https://www.chipdip.ru/product/molex-47346-0001; Type: Connector
footprint MicroUSB 47346-0001
pins: 1 VBUS (power), 2 D- (io), 3 D+ (io), 4 ID, 5 GND (power), A Shield (power)

## Connector USB
designator J?, comment USB
[DS1098-BN0]; Manufacturer: Ningbo connfly electronic; Part Number: DS1098-BN0; ComponentLink1Description: Chip&Dip; ComponentLink1URL: https://www.chipdip.ru/product/usb-asm-ds1098-b; ComponentLink2Description: DataSheet; ComponentLink2URL: https://static.chipdip.ru/lib/249/DOC000249309.pdf; Type: Connector
footprint USB
pins: 1 VBUS (power), 2 D- (io), 3 D+ (io), 4 GND (power), A Shield (power)

## Connector USB 2.0 Type-C
designator J?, comment USB
[USB4085-GF-A]; Manufacturer: Global Connector Technology; Part Number: USB4085-GF-A; ComponentLink1Description: Chip&Dip; ComponentLink1URL: https://www.chipdip.ru/product/usb4085-gf-a; Type: Connector; ComponentLink2Description: DataSheet; ComponentLink2URL: https://www.farnell.com/cad/2648880.pdf
footprint USB Type-C
pins: A Shield (power), A1 GND (power), A4 VBUS (power), A5 CC1, A6 D+ (io), A7 D- (io), A8 SBU1, A9 VBUS (power), A12 GND (power), B1 GND (power), B4 VBUS (power), B5 CC2, B6 D+ (io), B7 D- (io), B8 SBU2, B9 VBUS (power), B12 GND (power)

## Connector USB 3.1 Type-C
designator J?, comment USB
[E8124-010-01]; Manufacturer: Pulse Engineering; Part Number: E8124-010-01; ComponentLink1Description: Chip&Dip; ComponentLink1URL: https://www.chipdip.ru/product1/8002225623; Type: Connector
pins: 5 Shield (power), A1 GND (power), A2 TX1+ (out), A3 TX1- (out), A4 VBUS (power), A5 CC1, A6 D+ (io), A7 D- (io), A8 SBU1, A9 VBUS (power), A10 RX2- (in), A11 RX2+ (in), A12 GND (power), B1 GND (power), B2 TX2+ (out), B3 TX2- (out), B4 VBUS (power), B5 CC2, B6 D+ (io), B7 D- (io), B8 SBU2, B9 VBUS (power), B10 RX1- (in), B11 RX1+ (in), B12 GND (power)

## Connector XT30PW-Female
designator J?, comment XT30
Standart RC Connector; Part Number: XT30PW; Manufacturer: Amass; ComponentLink1Description: AliExpress; ComponentLink1URL: https://ru.aliexpress.com/item/4000070113352.html?spm=a2g0o.productlist.0.0.39dd34bfyYuspa&algo_pvid=4d7d83f5-6270-4220-b100-9b5f13b0846d&algo_expid=4d7d83f5-6270-4220-b100-9b5f13b0846d-3&btsid=c67bc929-e3be-4af3-9fd9-25ac13ce4818&ws_ab_test=searchweb0_0,searchweb201602_,searchweb201603_55; Type: Connector
footprint HEADER 2 XT30PW FeMale
pins: 1 GND, 2 VCC, A Shield

## Connector XT30PW-Male
designator J?, comment XT30
Standart RC Connector; Part Number: XT30PW; Manufacturer: Amass; ComponentLink1Description: AliExpress; ComponentLink1URL: https://ru.aliexpress.com/item/4000070113352.html?spm=a2g0o.productlist.0.0.39dd34bfyYuspa&algo_pvid=4d7d83f5-6270-4220-b100-9b5f13b0846d&algo_expid=4d7d83f5-6270-4220-b100-9b5f13b0846d-3&btsid=c67bc929-e3be-4af3-9fd9-25ac13ce4818&ws_ab_test=searchweb0_0,searchweb201602_,searchweb201603_55; Type: Connector
footprint HEADER 2 XT30PW Male
pins: 1 VCC, 2 GND, A Shield

## Crystal 8MHz
designator Y?, comment 8MHz
Crystal. HC-49S (US); Manufacturer: China; Part Number: 8.000MHzHC-49US; Type: Crystal; ComponentLink1Description: Chip&Dip; ComponentLink1URL: https://www.chipdip.ru/product/8mhz-hc-49s
footprint R38 (Crystal)
pins: 1, 2

## Crystal 8MHz [ABM]
designator Y?, comment 8MHz
8.0MHz 10pf 10ppm -10C +60C; Manufacturer: ABRACON; Part Number: ABM3B-8.000MHZ-10-1UT; Type: Crystal; ComponentLink1Description: Mouser; ComponentLink1URL: https://ru.mouser.com/ProductDetail/ABRACON/ABM3B-8000MHZ-10-1UT?qs=sGAEpiMZZMsBj6bBr9Q9aQYUWCbsL2Wc65je5Ut7byg%3D; ComponentLink2Description: DataSheet; ComponentLink2URL: https://ru.mouser.com/datasheet/2/3/abm3b-39910.pdf
footprint Crystal ABM
pins: 1, 2, GND

## Crystal 8MHz SMD
designator Y?, comment 8MHz
Crystal. HC-49SM (US); Manufacturer: China; Part Number: 8.000MHzHC-49SM; Type: Crystal; ComponentLink1Description: Chip&Dip; ComponentLink1URL: https://www.chipdip.ru/product/8mhz-hc-49sm
footprint hc-49sm
pins: 1, 2

## Crystal 16MHz
designator Y?, comment 16MHz
Crystal. HC-49S (US); Manufacturer: China; Part Number: 16.000MHzHC-49US; Type: Crystal; ComponentLink1Description: Chip&Dip; ComponentLink1URL: https://www.chipdip.ru/product/16mhz-hc-49s
footprint R38 (Crystal)
pins: 1, 2

## Crystal 26MHz [ABM]
designator Y?, comment 26MHz
26.0MHz 10pf 10ppm -10C +60C; Manufacturer: ABRACON; Part Number: ABM3B-26.000MHZ-10-1-U-T; Type: Crystal; ComponentLink1Description: Mouser; ComponentLink1URL: https://ru.mouser.com/ProductDetail/ABRACON/ABM3B-26000MHZ-10-1-U-T?qs=sGAEpiMZZMsBj6bBr9Q9aYIb7x83P10s%2FVqDaCBbZQI%3D; ComponentLink2Description: DataSheet; ComponentLink2URL: https://ru.mouser.com/datasheet/2/3/abm3b-1774998.pdf
footprint Crystal ABM
pins: 1, 2, GND

## Crystal 40MHz [ABM]
designator Y?, comment 40MHz
40.0MHz 10pf 10ppm -10C +60C; Manufacturer: ABRACON; Part Number: ABM3B-40.000MHZ-10-1-U-T; Type: Crystal; ComponentLink1Description: Mouser; ComponentLink1URL: https://ru.mouser.com/ProductDetail/ABRACON/ABM3B-40000MHZ-10-1-U-T?qs=sGAEpiMZZMsBj6bBr9Q9acVJ3l36SOAPS6GFViLdkvE%3D; ComponentLink2Description: DataSheet; ComponentLink2URL: https://ru.mouser.com/datasheet/2/3/abm3b-1774998.pdf
footprint Crystal ABM
pins: 1, 2, GND

## Current Sensor 5A
designator U?, comment Current Sens
Hall current sensor, 5A, VIN upto 8V; Manufacturer: Allegro MicroSystems; Part Number: ACS712ELCTR-05B-T; Type: IC; ComponentLink1Description: ChipDip; ComponentLink1URL: https://www.chipdip.ru/product/acs712elctr-05b-t; ComponentLink2Description: Datasheet; ComponentLink2URL: https://static.chipdip.ru/lib/242/DOC000242949.pdf
footprint SOIC-8
pins: 1 IP+, 2 IP+, 3 IP-, 4 IP-, 5 GND (power), 6 FILTER, 7 VOUT (out), 8 VCC (power)

## Current Sensor 20A
designator U?, comment Current Sens
Hall current sensor, 20A, VIN upto 8V; Manufacturer: Allegro MicroSystems; Part Number: ACS712ELCTR-20A-T; Type: IC; ComponentLink1Description: Chip&Dip; ComponentLink1URL: https://www.chipdip.ru/product/acs712elctr-20a-t; ComponentLink2Description: Datasheet; ComponentLink2URL: https://static.chipdip.ru/lib/242/DOC000242949.pdf
footprint SOIC-8
pins: 1 IP+, 2 IP+, 3 IP-, 4 IP-, 5 GND (power), 6 FILTER, 7 VOUT (out), 8 VCC (power)

## Current Sensor 50A
designator U?, comment Current Sens
Hall current sensor, 50A, VIN upto 8V; Manufacturer: Allegro MicroSystems; Part Number: ACS758LCB-050U-PFF-T; ComponentLink1Description: Chip&Dip; ComponentLink1URL: https://www.chipdip.ru/product0/8001922402; ComponentLink2Description: Datasheet; ComponentLink2URL: https://static.chipdip.ru/lib/787/DOC005787708.pdf; Type: IC
footprint CB-5 (ACS758SCB)
pins: 1 VCC (power), 2 GND (power), 3 VOUT (out), 4 IP-, 5 IP+

## Current Sensor [HTFS]
designator U?, comment Current Sens
The HTFS 200-P is a Current Transducer for the electronic measurement of DC, AC, pulsed, mixed with a galvanic isolation between the primary circuit (high power) and the secondary circuit (electronic circuit). Hall effect measuring principle.; Manufacturer: LEM; Part Number: HTFS 200-P/SP2; Type: IC; ComponentLink1Description: Chip&Dip; ComponentLink1URL: https://www.chipdip.ru/product/htfs-200-p-sp2-current-transducer; ComponentLink2Description: DataSheet; ComponentLink2URL: http://www.farnell.com/datasheets/30908.pdf
footprint HTFS
pins: 1 +5V (power), 2 GND (power), 3 Output (out), 4 Vref (I/O) (io), A Sh (power)

## D-Trigger [SN74AC74D]
designator U?, comment D-Trig
SN74AC74D is a dual positive-edge-triggered D-type Flip-flop with clear and preset.; Manufacturer: Texas Instruments; Part Number: SN74AC74D; ComponentLink1Description: DataSheet; ComponentLink1URL: https://static.chipdip.ru/lib/204/DOC000204586.pdf; ComponentLink2Description: Chip&Dip; ComponentLink2URL: https://www.chipdip.ru/product/sn74ac74d; Type: IC
footprint SOIC-14
part A pins: 1 ~{CLR}, 2 D, 3 CLK, 4 ~{PRE}, 5 Q, 6 ~{Q}
part B pins: 8 ~{Q}, 9 Q, 10 ~{PRE}, 11 CLK, 12 D, 13 ~{CLR}
part C pins: 7 GND (power), 14 VCC (power)

## DC/DC
designator U?
DC/DC 5V with MP2307 Chip
footprint DC-DC
pins: 1 IN- (power), 2 IN+ (power), 3 OUT- (power), 4 OUT+ (power)

## DC/DC Controller [L5973]
designator U?, comment DC/DC
The L5973AD is a step down monolithic power switching regulator with a switch current limit of 2 A so it is able to deliver more than 1.5 A DC current to the load depending on the application conditions; Manufacturer: STMicroelectronics; Part Number: L5973ADTR; ComponentLink1Description: Chip&Dip; ComponentLink1URL: https://www.chipdip.ru/product/l5973ad; ComponentLink2Description: DataSheet; ComponentLink2URL: https://static.chipdip.ru/lib/583/DOC001583165.pdf; Type: IC
footprint HSOP-8
pins: 1 OUT (out), 2 Sync, 3 INH (in), 4 Comp (out), 5 FB (in), 6 Vref (power), 7 GND (power), 8 VCC (power), A EP (power)

## DC/DC Controller [LM1501]
designator U?, comment DC/DC
The LM1501Aseries of regulators are monolithic integrated circuits that provideall the active functions for astep-down  switching  regulator,  capable  ofdriving  a  5A  load  with  excellent  line  and  load  regulation.; Manufacturer: TAEJIN TECHNOLOGY; Part Number: LM1501AGR-ADJ; ComponentLink1Description: Chip&Dip; ComponentLink1URL: https://www.chipdip.ru/product/lm1501agr-adj; ComponentLink2Description: DataSheet; ComponentLink2URL: https://static.chipdip.ru/lib/138/DOC004138836.pdf; Type: IC
footprint TO-263-5L
pins: 1 Vin (power), 2 Output (out), 3 GND (power), 4 FeedBack (in), 5 On/Off (in)

## DC/DC Controller [LM2731]
designator U?, comment DC/DC
The  LM2731  switching  regulators  are  current-mode  boostconverters  operating  at  fixed  frequencies  of  1.6  MHz  (“X”option) and 600 kHz (“Y” option).; Manufacturer: Texas Instruments; Part Number: LM2731YMF/NOPB; ComponentLink1Description: Chip&Dip; ComponentLink1URL: https://www.chipdip.ru/product/lm2731ymf-nopb; ComponentLink2Description: DataSheet; ComponentLink2URL: https://static.chipdip.ru/lib/491/DOC000491907.pdf; Type: IC
footprint SOT-23-5
pins: 1 SW (out), 2 GND (power), 3 FB (in), 4 SHDN (in), 5 Vin (power)

## DC/DC Controller [LM3150]
designator U?, comment DC/DC
A SIMPLE SWITCHER® synchronous Step-down Controller capable of providing up to 12A of output current in a typical application. Operating with an input voltage range of 6V to 42V, the LM3150 features an adjustable output voltage down to 0.6V; Manufacturer: Texas Instruments; Part Number: LM3150MH/NOPB; ComponentLink1Description: Chip&Dip; ComponentLink1URL: https://www.chipdip.ru/product/lm3150mh-nopb; ComponentLink2Description: DataSheet; ComponentLink2URL: https://static.chipdip.ru/lib/029/DOC001029258.pdf; Type: IC
footprint HTSSOP-14
pins: 1 VCC (power) "Supply Voltage for FET Drivers", 2 Vin (power) "Input Supply Voltage", 3 EN (in) "Enable", 4 FB (in) "Feedback", 5 SGND (power) "Signal Ground", 6 SS (in) "Soft Start", 7 RON (in) "On-Time Control", 8 ILIM "Current Limit", 9 SGND (power) "Signal Ground", 10 SW "Swich Node", 11 HG "High-Side Gate Drive", 12 BST (power) "Connection for Bootstrap Capicator", 13 LG (out) "Low-Side Gate Drive", 14 PGND (power) "Power Ground", A EP (power) "Signal Ground"

## DC/DC Controller [NCP]
designator U?, comment DC/DC
The NCP1402 series are monolithic micropower step−up DC to DCconverter that are specially designed for powering portable equipmentfrom  one  or  two  cell  battery  packs.; Manufacturer: ON Semiconductor; Part Number: NCP1402SN50T1G; ComponentLink1Description: Chip&Dip; ComponentLink1URL: https://www.chipdip.ru/product/ncp1402sn50t1g; ComponentLink2Description: DataSheet; ComponentLink2URL: https://static.chipdip.ru/lib/080/DOC001080266.pdf; Type: IC
footprint SOT-23-5
pins: 1 CE (in), 2 Out (in), 4 GND (power), 5 LX (out)